# Altium integrated library PinHeader_2.54mm.IntLib: 1 symbol
Pins are listed as number, name and electrical type; pins without a type are passive.

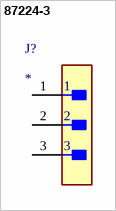
[diagram p0: symbol 87224-3]

## 87224-3
designator J?
Header; Standard; PCB Mount; Single; 3; 0.025 in.; 0.125 in.; Square; 0.1 in.; Manufacturer 1: TE Connectivity; Manufacturer Part Number 1: 87224-3; Category 1: Connectors; Current Rating: 3A; Number of Positions: 3; Connector Type: Plug,Header,Pin; Board Standoff: No (Without); High Speed Serial Data Connector: No; PCB Mount Retention: Without; PCB Mounting Orientation: Vertical; Pitch: 2.54mm; Contact Post Length: 0.125inch; PCB Thickness: 1.397mm; Approvals: CSA; Supplier 1: Digi-Key; Supplier Part Number 1: A26545-ND; RoHS 1: Yes; Description 1: Header; Standard; PCB Mount; Single; 3; 0.025 in.; 0.125 in.; Square; 0.1 in.; Stock 1: 20518; Pricing 1: 1=1.43000, 10=1.20700, 100=1.08380, 500=0.88676, 1000=0.78824, 5000=0.68971, 10000=0.65522 (USD); Mount: Through Hole; Contact Plating: Gold; Color: Black; Contact Material: Bronze; Housing Color: Black; Housing Material: Thermoplastic; Contact Shape: Square; Contact Finish - Mating: GOLD; Insulation Material: Thermoplastic; Insulation Color: Black; Min Operating Temperature: -65°C; Max Operating Temperature: 105°C; Packaging: Carton; Series: AMPMODU MOD II; Package Quantity: 520; Termination: Through Hole; Number of Rows: 1; Number of Contacts: 3; Orientation: Straight; Contact Type: Male Pin; Fastening Type: Pull; Contact Gender: Male; Contact Protection: No (Without); Gasket: No (Without); High Temperature Housing: No; Keyed: No; Mating Alignment: No (Without); Mating Connector Lock: No (Without); Selectively Loaded: No (Without); Stabilizers: No (Without); Strain Relief: No (Without); Contact Current Rating: 3A; Length: 7.21mm; Depth: 2.54mm; Contact Mating Length: 8.08mm; Row Spacing: 2.54mm; Radiation Hardening: No; RoHS Compliant: Yes; Lead Free: Lead Free; ELV: Compliant; Flammability Rating: UL94 V-0; ComponentLink1URL: https://datasheet.ciiva.com/27055/1934526-27055080.pdf?src-supplier=Jameco; ComponentLink1Description: https://datasheet.ciiva.com/27055/1934526-27055080.pdf?src-supplier=Jameco; ComponentLink2URL: https://datasheet.ciiva.com/30493/0900766b80fa3622-30493726.pdf?src-supplier=RSComponents; ComponentLink2Description: https://datasheet.ciiva.com/30493/0900766b80fa3622-30493726.pdf?src-supplier=RSComponents; ComponentLink3URL: https://datasheet.ciiva.com/3118/eng-ds-1307819-ampmodu-0811-3118584.pdf?src-supplier=Avnet; ComponentLink3Description: https://datasheet.ciiva.com/3118/eng-ds-1307819-ampmodu-0811-3118584.pdf?src-supplier=Avnet; ComponentLink4URL: https://datasheet.ciiva.com/8047/eng-cs-1307819-section-5-0908-8047530.pdf?src-supplier=Element14; ComponentLink4Description: https://datasheet.ciiva.com/8047/eng-cs-1307819-section-5-0908-8047530.pdf?src-supplier=Element14; ComponentLink5URL: https://datasheet.ciiva.com/14639/70087275-14639466.pdf?src-supplier=Allied+Electronics; ComponentLink5Description: https://datasheet.ciiva.com/14639/70087275-14639466.pdf?src-supplier=Allied+Electronics; ComponentLink6URL: https://datasheet.ciiva.com/709/eng-cd-87224-l3-709905.pdf?src-supplier=Digi-Key; ComponentLink6Description: https://datasheet.ciiva.com/709/eng-cd-87224-l3-709905.pdf?src-supplier=Digi-Key; Supplier 2: Mouser; Supplier Part Number 2: 571-872243; Manufacturer 2: TE Connectivity; Manufacturer Part Number 2: 87224-3; RoHS 2: Yes; Description 2: Header; Standard; PCB Mount; Single; 3; 0.025 in.; 0.125 in.; Square; 0.1 in.; Category 2: Connectors; Stock 2: 21024; Pricing 2: 1=1.42000, 10=1.18000, 50=1.18000, 100=1.03000, 520=0.87800, 1000=0.87800, 1040=0.78000, 2600=0.70700, 5200=0.68200, 10000=0.68200, 10400=0.64800, 25480=0.63400 (USD)
footprint PinHeader_1x03_P2.54mm_Vertical (Through hole straight pin header, 1x03, 2.54mm pitch, single row)
pins: 1, 2, 3